# EAGLE library part CON_P2X03 (library akita)
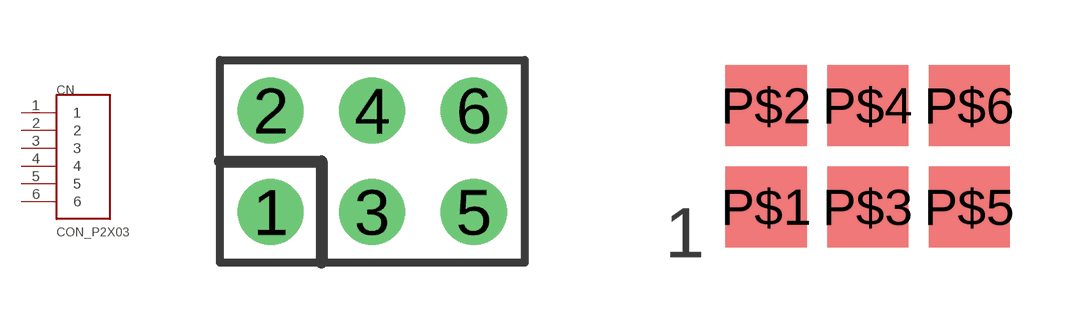
[diagram p20: symbol with the pads of 2X03R; footprints 2X03R, 2X3SMD]

Designator prefix CN

## CON_P2X032X03R  [2X03R]
1  1
2  2
3  3
4  4
5  5
6  6

## CON_P2X03  [2X3SMD]
P$1  1
P$2  2
P$3  3
P$4  4
P$5  5
P$6  6

## Footprint 2X03R (pad centres in mm)
drill 0.9 pad 1.651: 1 -2.54,-1.27; 2 -2.54,1.27; 3 0,-1.27; 4 0,1.27; 5 2.54,-1.27; 6 2.54,1.27

## Footprint 2X3SMD (pad centres in mm)
2x3, Top view
smd 2.032 x 2.032: P$1 -2.54,-1.27; P$2 -2.54,1.27; P$3 0,-1.27; P$4 0,1.27; P$5 2.54,-1.27; P$6 2.54,1.27